# Altium schematic symbol library 10CL016_U484.SchLib: 1 symbol
Pins are listed as number, name and electrical type; pins without a type are passive.

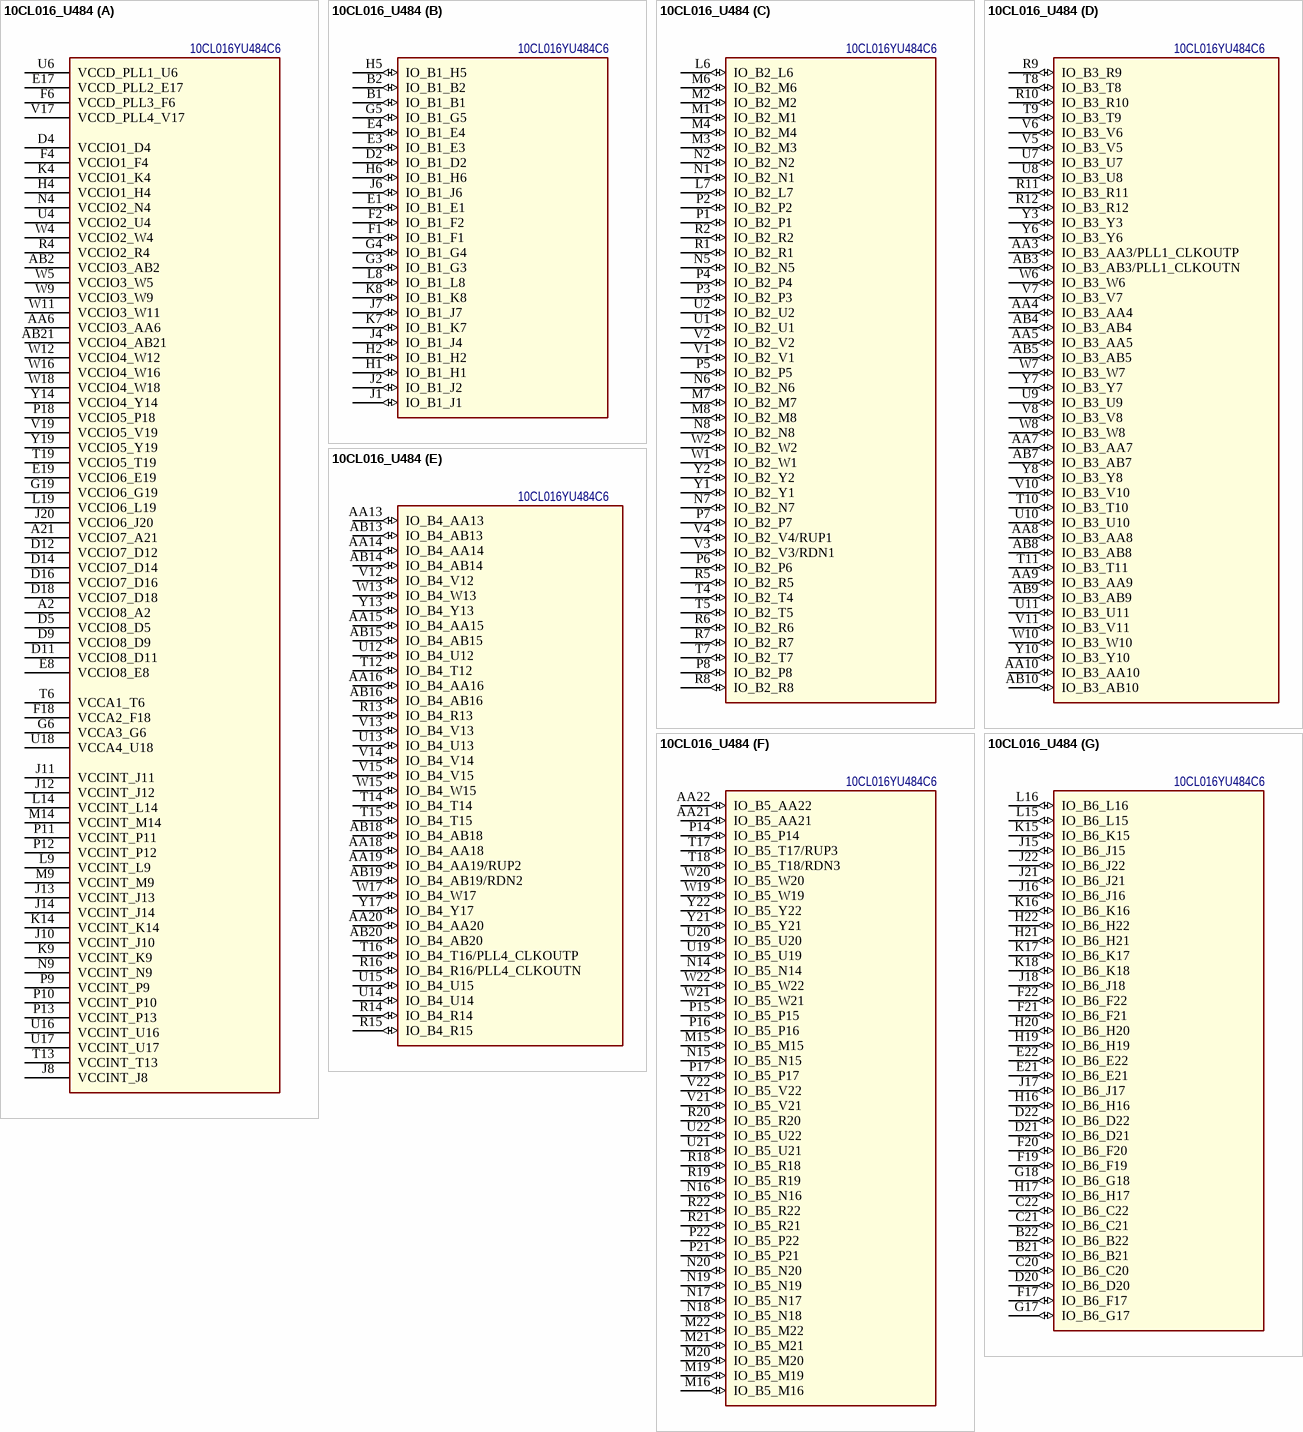
[diagram p0: symbol 10CL016_U484]

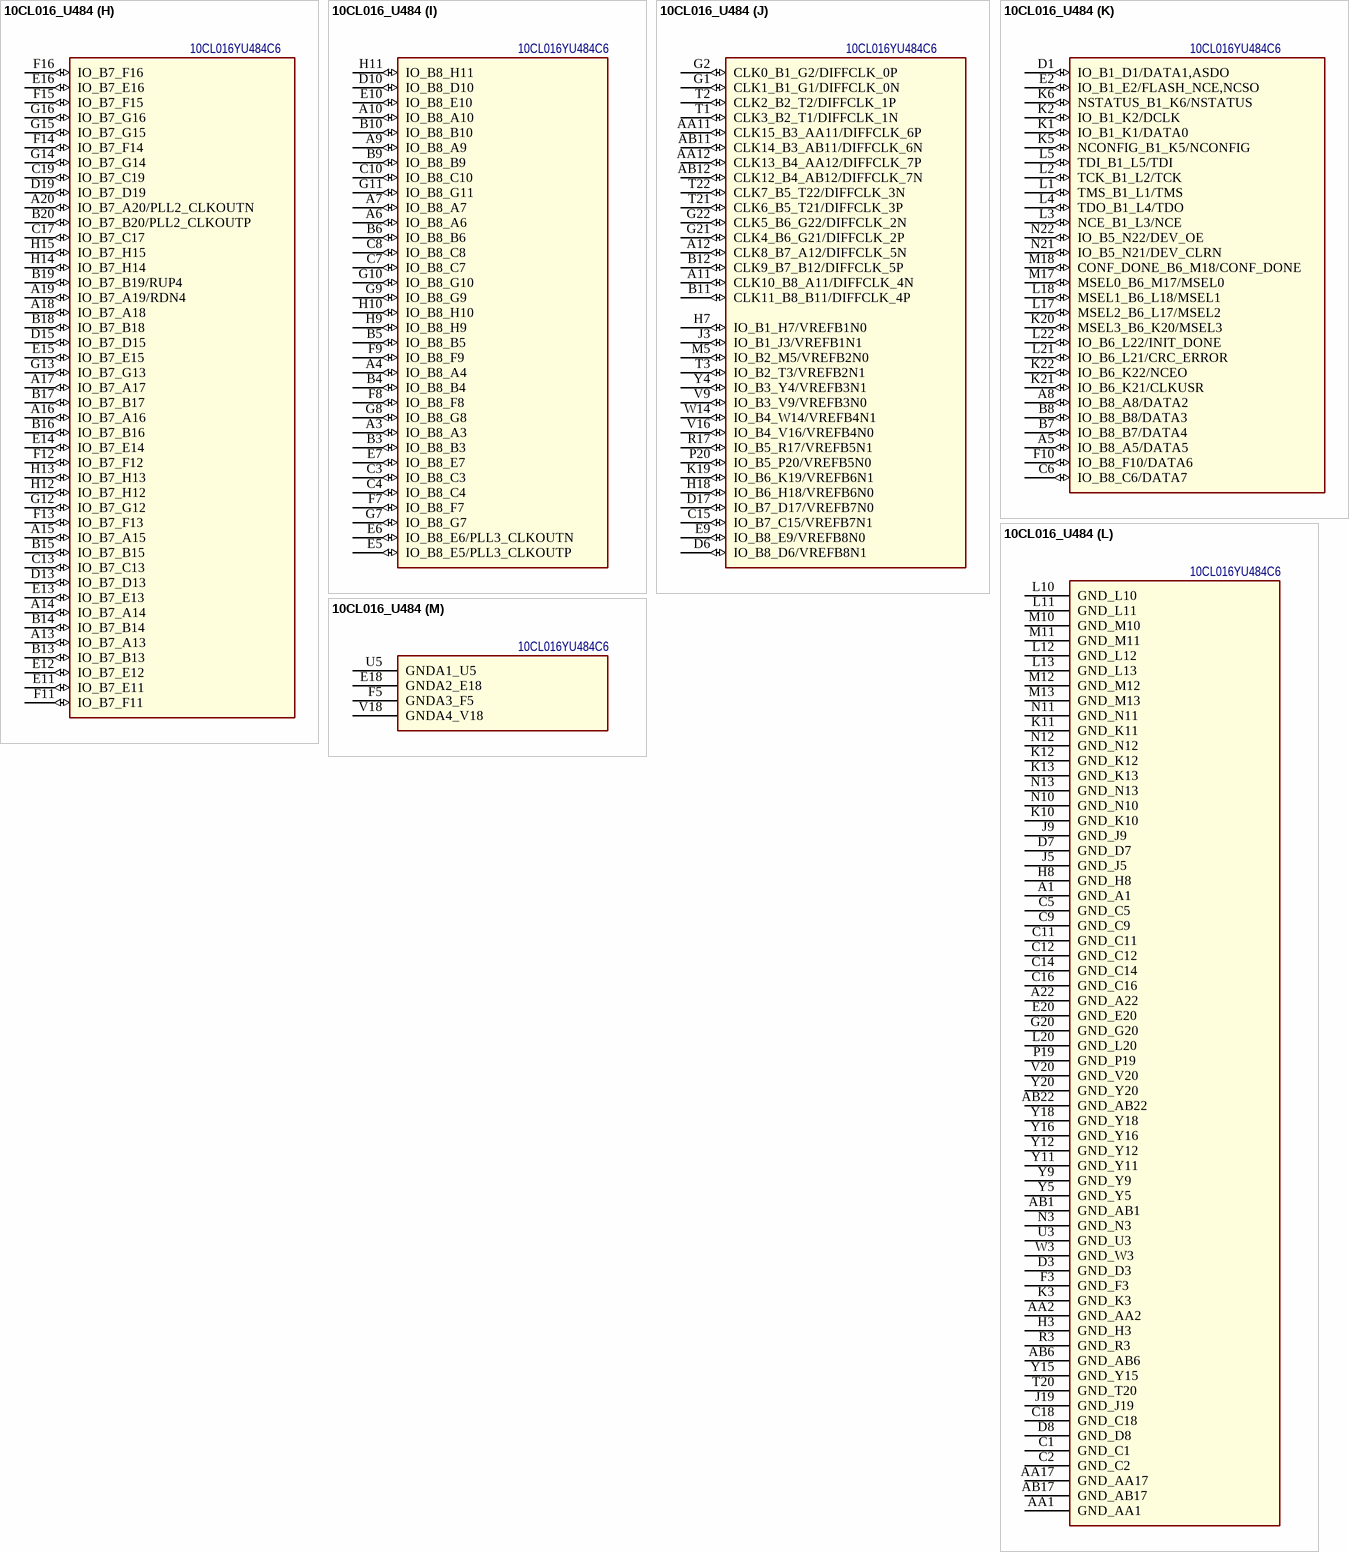
[diagram p1: symbol 10CL016_U484]

## 10CL016_U484
designator U?, comment Наименование: 10CL016YU484С6  (hidden comment: 10CL016YU484)
Intel® Cyclone® 10 LP FPGA; Потребление, Вт: 0.5; Назначение: Intel® Cyclone® 10 LP FPGA; ComponentLink1Description: DataSheet; ComponentLink1URL: https://www.intel.com/content/dam/www/programmable/us/en/pdfs/literature/hb/cyclone-10/c10lp-51002.pdf; ComponentLink2Description: PinConnectionGuidlines; ComponentLink2URL: https://www.intel.com/content/dam/www/programmable/us/en/pdfs/literature/dp/cyclone-10/pcg-01021.pdf; Supplier 1: Mouser; Supplier Part Number 1: 989-10CL016YU484C6G
footprint UBGA-484 (BGA, 484-Leads, Body 19,00x19,00mmx2,20mm, Pitch 0,80mm)
part A pins: A2 VCCIO8_A2 (power), A21 VCCIO7_A21 (power), AA6 VCCIO3_AA6 (power), AB2 VCCIO3_AB2 (power), AB21 VCCIO4_AB21 (power), D4 VCCIO1_D4 (power), D5 VCCIO8_D5 (power), D9 VCCIO8_D9 (power), D11 VCCIO8_D11 (power), D12 VCCIO7_D12 (power), D14 VCCIO7_D14 (power), D16 VCCIO7_D16 (power), D18 VCCIO7_D18 (power), E8 VCCIO8_E8 (power), E17 VCCD_PLL2_E17 (power), E19 VCCIO6_E19 (power), F4 VCCIO1_F4 (power), F6 VCCD_PLL3_F6 (power), F18 VCCA2_F18 (power), G6 VCCA3_G6 (power), G19 VCCIO6_G19 (power), H4 VCCIO1_H4 (power), J8 VCCINT_J8 (power), J10 VCCINT_J10 (power), J11 VCCINT_J11 (power), J12 VCCINT_J12 (power), J13 VCCINT_J13 (power), J14 VCCINT_J14 (power), J20 VCCIO6_J20 (power), K4 VCCIO1_K4 (power), K9 VCCINT_K9 (power), K14 VCCINT_K14 (power), L9 VCCINT_L9 (power), L14 VCCINT_L14 (power), L19 VCCIO6_L19 (power), M9 VCCINT_M9 (power), M14 VCCINT_M14 (power), N4 VCCIO2_N4 (power), N9 VCCINT_N9 (power), P9 VCCINT_P9 (power), P10 VCCINT_P10 (power), P11 VCCINT_P11 (power), P12 VCCINT_P12 (power), P13 VCCINT_P13 (power), P18 VCCIO5_P18 (power), R4 VCCIO2_R4 (power), T6 VCCA1_T6 (power), T13 VCCINT_T13 (power), T19 VCCIO5_T19 (power), U4 VCCIO2_U4 (power), U6 VCCD_PLL1_U6 (power), U16 VCCINT_U16 (power), U17 VCCINT_U17 (power), U18 VCCA4_U18 (power), V17 VCCD_PLL4_V17 (power), V19 VCCIO5_V19 (power), W4 VCCIO2_W4 (power), W5 VCCIO3_W5 (power), W9 VCCIO3_W9 (power), W11 VCCIO3_W11 (power), W12 VCCIO4_W12 (power), W16 VCCIO4_W16 (power), W18 VCCIO4_W18 (power), Y14 VCCIO4_Y14 (power), Y19 VCCIO5_Y19 (power)
part B pins: B1 IO_B1_B1 (io), B2 IO_B1_B2 (io), D2 IO_B1_D2 (io), E1 IO_B1_E1 (io), E3 IO_B1_E3 (io), E4 IO_B1_E4 (io), F1 IO_B1_F1 (io), F2 IO_B1_F2 (io), G3 IO_B1_G3 (io), G4 IO_B1_G4 (io), G5 IO_B1_G5 (io), H1 IO_B1_H1 (io), H2 IO_B1_H2 (io), H5 IO_B1_H5 (io), H6 IO_B1_H6 (io), J1 IO_B1_J1 (io), J2 IO_B1_J2 (io), J4 IO_B1_J4 (io), J6 IO_B1_J6 (io), J7 IO_B1_J7 (io), K7 IO_B1_K7 (io), K8 IO_B1_K8 (io), L8 IO_B1_L8 (io)
part C pins: L6 IO_B2_L6 (io), L7 IO_B2_L7 (io), M1 IO_B2_M1 (io), M2 IO_B2_M2 (io), M3 IO_B2_M3 (io), M4 IO_B2_M4 (io), M6 IO_B2_M6 (io), M7 IO_B2_M7 (io), M8 IO_B2_M8 (io), N1 IO_B2_N1 (io), N2 IO_B2_N2 (io), N5 IO_B2_N5 (io), N6 IO_B2_N6 (io), N7 IO_B2_N7 (io), N8 IO_B2_N8 (io), P1 IO_B2_P1 (io), P2 IO_B2_P2 (io), P3 IO_B2_P3 (io), P4 IO_B2_P4 (io), P5 IO_B2_P5 (io), P6 IO_B2_P6 (io), P7 IO_B2_P7 (io), P8 IO_B2_P8 (io), R1 IO_B2_R1 (io), R2 IO_B2_R2 (io), R5 IO_B2_R5 (io), R6 IO_B2_R6 (io), R7 IO_B2_R7 (io), R8 IO_B2_R8 (io), T4 IO_B2_T4 (io), T5 IO_B2_T5 (io), T7 IO_B2_T7 (io), U1 IO_B2_U1 (io), U2 IO_B2_U2 (io), V1 IO_B2_V1 (io), V2 IO_B2_V2 (io), V3 IO_B2_V3/RDN1 (io), V4 IO_B2_V4/RUP1 (io), W1 IO_B2_W1 (io), W2 IO_B2_W2 (io), Y1 IO_B2_Y1 (io), Y2 IO_B2_Y2 (io)
part D pins: AA3 IO_B3_AA3/PLL1_CLKOUTP (io), AA4 IO_B3_AA4 (io), AA5 IO_B3_AA5 (io), AA7 IO_B3_AA7 (io), AA8 IO_B3_AA8 (io), AA9 IO_B3_AA9 (io), AA10 IO_B3_AA10 (io), AB3 IO_B3_AB3/PLL1_CLKOUTN (io), AB4 IO_B3_AB4 (io), AB5 IO_B3_AB5 (io), AB7 IO_B3_AB7 (io), AB8 IO_B3_AB8 (io), AB9 IO_B3_AB9 (io), AB10 IO_B3_AB10 (io), R9 IO_B3_R9 (io), R10 IO_B3_R10 (io), R11 IO_B3_R11 (io), R12 IO_B3_R12 (io), T8 IO_B3_T8 (io), T9 IO_B3_T9 (io), T10 IO_B3_T10 (io), T11 IO_B3_T11 (io), U7 IO_B3_U7 (io), U8 IO_B3_U8 (io), U9 IO_B3_U9 (io), U10 IO_B3_U10 (io), U11 IO_B3_U11 (io), V5 IO_B3_V5 (io), V6 IO_B3_V6 (io), V7 IO_B3_V7 (io), V8 IO_B3_V8 (io), V10 IO_B3_V10 (io), V11 IO_B3_V11 (io), W6 IO_B3_W6 (io), W7 IO_B3_W7 (io), W8 IO_B3_W8 (io), W10 IO_B3_W10 (io), Y3 IO_B3_Y3 (io), Y6 IO_B3_Y6 (io), Y7 IO_B3_Y7 (io), Y8 IO_B3_Y8 (io), Y10 IO_B3_Y10 (io)
part E pins: AA13 IO_B4_AA13 (io), AA14 IO_B4_AA14 (io), AA15 IO_B4_AA15 (io), AA16 IO_B4_AA16 (io), AA18 IO_B4_AA18 (io), AA19 IO_B4_AA19/RUP2 (io), AA20 IO_B4_AA20 (io), AB13 IO_B4_AB13 (io), AB14 IO_B4_AB14 (io), AB15 IO_B4_AB15 (io), AB16 IO_B4_AB16 (io), AB18 IO_B4_AB18 (io), AB19 IO_B4_AB19/RDN2 (io), AB20 IO_B4_AB20 (io), R13 IO_B4_R13 (io), R14 IO_B4_R14 (io), R15 IO_B4_R15 (io), R16 IO_B4_R16/PLL4_CLKOUTN (io), T12 IO_B4_T12 (io), T14 IO_B4_T14 (io), T15 IO_B4_T15 (io), T16 IO_B4_T16/PLL4_CLKOUTP (io), U12 IO_B4_U12 (io), U13 IO_B4_U13 (io), U14 IO_B4_U14 (io), U15 IO_B4_U15 (io), V12 IO_B4_V12 (io), V13 IO_B4_V13 (io), V14 IO_B4_V14 (io), V15 IO_B4_V15 (io), W13 IO_B4_W13 (io), W15 IO_B4_W15 (io), W17 IO_B4_W17 (io), Y13 IO_B4_Y13 (io), Y17 IO_B4_Y17 (io)
part F pins: AA21 IO_B5_AA21 (io), AA22 IO_B5_AA22 (io), M15 IO_B5_M15 (io), M16 IO_B5_M16 (io), M19 IO_B5_M19 (io), M20 IO_B5_M20 (io), M21 IO_B5_M21 (io), M22 IO_B5_M22 (io), N14 IO_B5_N14 (io), N15 IO_B5_N15 (io), N16 IO_B5_N16 (io), N17 IO_B5_N17 (io), N18 IO_B5_N18 (io), N19 IO_B5_N19 (io), N20 IO_B5_N20 (io), P14 IO_B5_P14 (io), P15 IO_B5_P15 (io), P16 IO_B5_P16 (io), P17 IO_B5_P17 (io), P21 IO_B5_P21 (io), P22 IO_B5_P22 (io), R18 IO_B5_R18 (io), R19 IO_B5_R19 (io), R20 IO_B5_R20 (io), R21 IO_B5_R21 (io), R22 IO_B5_R22 (io), T17 IO_B5_T17/RUP3 (io), T18 IO_B5_T18/RDN3 (io), U19 IO_B5_U19 (io), U20 IO_B5_U20 (io), U21 IO_B5_U21 (io), U22 IO_B5_U22 (io), V21 IO_B5_V21 (io), V22 IO_B5_V22 (io), W19 IO_B5_W19 (io), W20 IO_B5_W20 (io), W21 IO_B5_W21 (io), W22 IO_B5_W22 (io), Y21 IO_B5_Y21 (io), Y22 IO_B5_Y22 (io)
part G pins: B21 IO_B6_B21 (io), B22 IO_B6_B22 (io), C20 IO_B6_C20 (io), C21 IO_B6_C21 (io), C22 IO_B6_C22 (io), D20 IO_B6_D20 (io), D21 IO_B6_D21 (io), D22 IO_B6_D22 (io), E21 IO_B6_E21 (io), E22 IO_B6_E22 (io), F17 IO_B6_F17 (io), F19 IO_B6_F19 (io), F20 IO_B6_F20 (io), F21 IO_B6_F21 (io), F22 IO_B6_F22 (io), G17 IO_B6_G17 (io), G18 IO_B6_G18 (io), H16 IO_B6_H16 (io), H17 IO_B6_H17 (io), H19 IO_B6_H19 (io), H20 IO_B6_H20 (io), H21 IO_B6_H21 (io), H22 IO_B6_H22 (io), J15 IO_B6_J15 (io), J16 IO_B6_J16 (io), J17 IO_B6_J17 (io), J18 IO_B6_J18 (io), J21 IO_B6_J21 (io), J22 IO_B6_J22 (io), K15 IO_B6_K15 (io), K16 IO_B6_K16 (io), K17 IO_B6_K17 (io), K18 IO_B6_K18 (io), L15 IO_B6_L15 (io), L16 IO_B6_L16 (io)
part H pins: A13 IO_B7_A13 (io), A14 IO_B7_A14 (io), A15 IO_B7_A15 (io), A16 IO_B7_A16 (io), A17 IO_B7_A17 (io), A18 IO_B7_A18 (io), A19 IO_B7_A19/RDN4 (io), A20 IO_B7_A20/PLL2_CLKOUTN (io), B13 IO_B7_B13 (io), B14 IO_B7_B14 (io), B15 IO_B7_B15 (io), B16 IO_B7_B16 (io), B17 IO_B7_B17 (io), B18 IO_B7_B18 (io), B19 IO_B7_B19/RUP4 (io), B20 IO_B7_B20/PLL2_CLKOUTP (io), C13 IO_B7_C13 (io), C17 IO_B7_C17 (io), C19 IO_B7_C19 (io), D13 IO_B7_D13 (io), D15 IO_B7_D15 (io), D19 IO_B7_D19 (io), E11 IO_B7_E11 (io), E12 IO_B7_E12 (io), E13 IO_B7_E13 (io), E14 IO_B7_E14 (io), E15 IO_B7_E15 (io), E16 IO_B7_E16 (io), F11 IO_B7_F11 (io), F12 IO_B7_F12 (io), F13 IO_B7_F13 (io), F14 IO_B7_F14 (io), F15 IO_B7_F15 (io), F16 IO_B7_F16 (io), G12 IO_B7_G12 (io), G13 IO_B7_G13 (io), G14 IO_B7_G14 (io), G15 IO_B7_G15 (io), G16 IO_B7_G16 (io), H12 IO_B7_H12 (io), H13 IO_B7_H13 (io), H14 IO_B7_H14 (io), H15 IO_B7_H15 (io)
part I pins: A3 IO_B8_A3 (io), A4 IO_B8_A4 (io), A6 IO_B8_A6 (io), A7 IO_B8_A7 (io), A9 IO_B8_A9 (io), A10 IO_B8_A10 (io), B3 IO_B8_B3 (io), B4 IO_B8_B4 (io), B5 IO_B8_B5 (io), B6 IO_B8_B6 (io), B9 IO_B8_B9 (io), B10 IO_B8_B10 (io), C3 IO_B8_C3 (io), C4 IO_B8_C4 (io), C7 IO_B8_C7 (io), C8 IO_B8_C8 (io), C10 IO_B8_C10 (io), D10 IO_B8_D10 (io), E5 IO_B8_E5/PLL3_CLKOUTP (io), E6 IO_B8_E6/PLL3_CLKOUTN (io), E7 IO_B8_E7 (io), E10 IO_B8_E10 (io), F7 IO_B8_F7 (io), F8 IO_B8_F8 (io), F9 IO_B8_F9 (io), G7 IO_B8_G7 (io), G8 IO_B8_G8 (io), G9 IO_B8_G9 (io), G10 IO_B8_G10 (io), G11 IO_B8_G11 (io), H9 IO_B8_H9 (io), H10 IO_B8_H10 (io), H11 IO_B8_H11 (io)
part J pins: A11 CLK10_B8_A11/DIFFCLK_4N (io), A12 CLK8_B7_A12/DIFFCLK_5N (io), AA11 CLK15_B3_AA11/DIFFCLK_6P (io), AA12 CLK13_B4_AA12/DIFFCLK_7P (io), AB11 CLK14_B3_AB11/DIFFCLK_6N (io), AB12 CLK12_B4_AB12/DIFFCLK_7N (io), B11 CLK11_B8_B11/DIFFCLK_4P (io), B12 CLK9_B7_B12/DIFFCLK_5P (io), C15 IO_B7_C15/VREFB7N1 (io), D6 IO_B8_D6/VREFB8N1 (io), D17 IO_B7_D17/VREFB7N0 (io), E9 IO_B8_E9/VREFB8N0 (io), G1 CLK1_B1_G1/DIFFCLK_0N (io), G2 CLK0_B1_G2/DIFFCLK_0P (io), G21 CLK4_B6_G21/DIFFCLK_2P (io), G22 CLK5_B6_G22/DIFFCLK_2N (io), H7 IO_B1_H7/VREFB1N0 (io), H18 IO_B6_H18/VREFB6N0 (io), J3 IO_B1_J3/VREFB1N1 (io), K19 IO_B6_K19/VREFB6N1 (io), M5 IO_B2_M5/VREFB2N0 (io), P20 IO_B5_P20/VREFB5N0 (io), R17 IO_B5_R17/VREFB5N1 (io), T1 CLK3_B2_T1/DIFFCLK_1N (io), T2 CLK2_B2_T2/DIFFCLK_1P (io), T3 IO_B2_T3/VREFB2N1 (io), T21 CLK6_B5_T21/DIFFCLK_3P (io), T22 CLK7_B5_T22/DIFFCLK_3N (io), V9 IO_B3_V9/VREFB3N0 (io), V16 IO_B4_V16/VREFB4N0 (io), W14 IO_B4_W14/VREFB4N1 (io), Y4 IO_B3_Y4/VREFB3N1 (io)
part K pins: A5 IO_B8_A5/DATA5 (io), A8 IO_B8_A8/DATA2 (io), B7 IO_B8_B7/DATA4 (io), B8 IO_B8_B8/DATA3 (io), C6 IO_B8_C6/DATA7 (io), D1 IO_B1_D1/DATA1,ASDO (io), E2 IO_B1_E2/FLASH_NCE,NCSO (io), F10 IO_B8_F10/DATA6 (io), K1 IO_B1_K1/DATA0 (io), K2 IO_B1_K2/DCLK (io), K5 NCONFIG_B1_K5/NCONFIG (io), K6 NSTATUS_B1_K6/NSTATUS (io), K20 MSEL3_B6_K20/MSEL3 (io), K21 IO_B6_K21/CLKUSR (io), K22 IO_B6_K22/NCEO (io), L1 TMS_B1_L1/TMS (io), L2 TCK_B1_L2/TCK (io), L3 NCE_B1_L3/NCE (io), L4 TDO_B1_L4/TDO (io), L5 TDI_B1_L5/TDI (io), L17 MSEL2_B6_L17/MSEL2 (io), L18 MSEL1_B6_L18/MSEL1 (io), L21 IO_B6_L21/CRC_ERROR (io), L22 IO_B6_L22/INIT_DONE (io), M17 MSEL0_B6_M17/MSEL0 (io), M18 CONF_DONE_B6_M18/CONF_DONE (io), N21 IO_B5_N21/DEV_CLRN (io), N22 IO_B5_N22/DEV_OE (io)
part L pins: A1 GND_A1 (power), A22 GND_A22 (power), AA1 GND_AA1 (power), AA2 GND_AA2 (power), AA17 GND_AA17 (power), AB1 GND_AB1 (power), AB6 GND_AB6 (power), AB17 GND_AB17 (power), AB22 GND_AB22 (power), C1 GND_C1 (power), C2 GND_C2 (power), C5 GND_C5 (power), C9 GND_C9 (power), C11 GND_C11 (power), C12 GND_C12 (power), C14 GND_C14 (power), C16 GND_C16 (power), C18 GND_C18 (power), D3 GND_D3 (power), D7 GND_D7 (power), D8 GND_D8 (power), E20 GND_E20 (power), F3 GND_F3 (power), G20 GND_G20 (power), H3 GND_H3 (power), H8 GND_H8 (power), J5 GND_J5 (power), J9 GND_J9 (power), J19 GND_J19 (power), K3 GND_K3 (power), K10 GND_K10 (power), K11 GND_K11 (power), K12 GND_K12 (power), K13 GND_K13 (power), L10 GND_L10 (power), L11 GND_L11 (power), L12 GND_L12 (power), L13 GND_L13 (power), L20 GND_L20 (power), M10 GND_M10 (power), M11 GND_M11 (power), M12 GND_M12 (power), M13 GND_M13 (power), N3 GND_N3 (power), N10 GND_N10 (power), N11 GND_N11 (power), N12 GND_N12 (power), N13 GND_N13 (power), P19 GND_P19 (power), R3 GND_R3 (power), T20 GND_T20 (power), U3 GND_U3 (power), V20 GND_V20 (power), W3 GND_W3 (power), Y5 GND_Y5 (power), Y9 GND_Y9 (power), Y11 GND_Y11 (power), Y12 GND_Y12 (power), Y15 GND_Y15 (power), Y16 GND_Y16 (power), Y18 GND_Y18 (power), Y20 GND_Y20 (power)
part M pins: E18 GNDA2_E18 (power), F5 GNDA3_F5 (power), U5 GNDA1_U5 (power), V18 GNDA4_V18 (power)